# EAGLE library part SUBD15M (library lib_stankus)
SUB-D 15 male
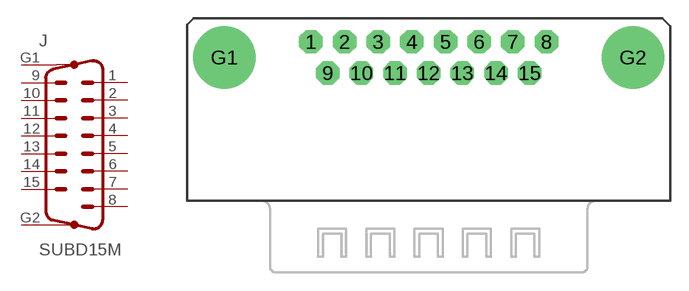
[diagram p23: symbol with the pads of SUBD15MA_BIG; footprint SUBD15MA_BIG]

Designator prefix J

## SUBD15M-ANGLE_BIG  [SUBD15MA_BIG]
1  1  pas
2  2  pas
3  3  pas
4  4  pas
5  5  pas
6  6  pas
7  7  pas
8  8  pas
9  9  pas
10  10  pas
11  11  pas
12  12  pas
13  13  pas
14  14  pas
15  15  pas
G1  G1  pas
G2  G2  pas

## Footprint SUBD15MA_BIG (pad centres in mm)
SUBD 15 MALE ANGLED, 75 MIL PADS
drill 1 pad 1.905 octagon: 1 -9.601,5.08; 2 -6.858,5.08; 3 -4.115,5.08; 4 -1.372,5.08; 5 1.372,5.08; 6 4.115,5.08; 7 6.858,5.08; 8 9.601,5.08; 9 -8.23,2.54; 10 -5.486,2.54; 11 -2.743,2.54; 12 0,2.54; 13 2.743,2.54; 14 5.486,2.54; 15 8.23,2.54
drill 3.3 pad 5.08 round: G1 -16.662,3.81; G2 16.662,3.81